# EAGLE library part CD4043B (library HyTechDevices2)
Texas Instruments CD4043B NOR R/S Latch CMOS Quad NOR 3-State R/S Latch
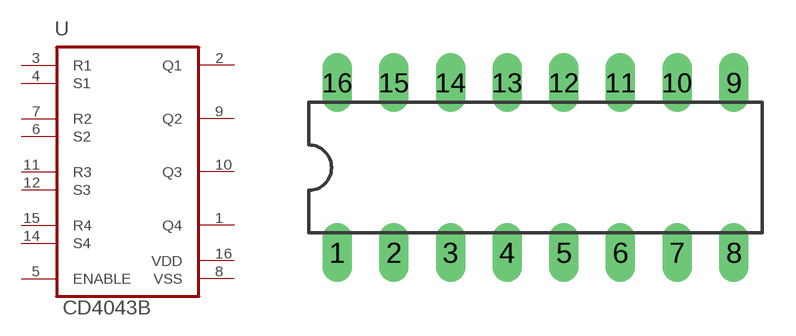
[diagram p43: symbol with the pads of DIL16; footprint DIL16]

Designator prefix -

## CD4043B  [DIL16]
1  Q4  out
2  Q1  out
3  R1  in
4  S1  in
5  ENABLE  in
6  S2  in
7  R2  in
8  VSS  out
9  Q2  out
10  Q3  out
11  R3  in
12  S3  in
14  S4  in
15  R4  in
16  VDD  in

## Footprint DIL16 (pad centres in mm)
Dual In Line Package
drill 0.813 long: 1 -8.89,-3.81; 2 -6.35,-3.81; 3 -3.81,-3.81; 4 -1.27,-3.81; 5 1.27,-3.81; 6 3.81,-3.81; 7 6.35,-3.81; 8 8.89,-3.81; 9 8.89,3.81; 10 6.35,3.81; 11 3.81,3.81; 12 1.27,3.81; 13 -1.27,3.81; 14 -3.81,3.81; 15 -6.35,3.81; 16 -8.89,3.81